# Altium integrated library TI Interface Line Driver.IntLib: 130 symbols (part 3 of 3)
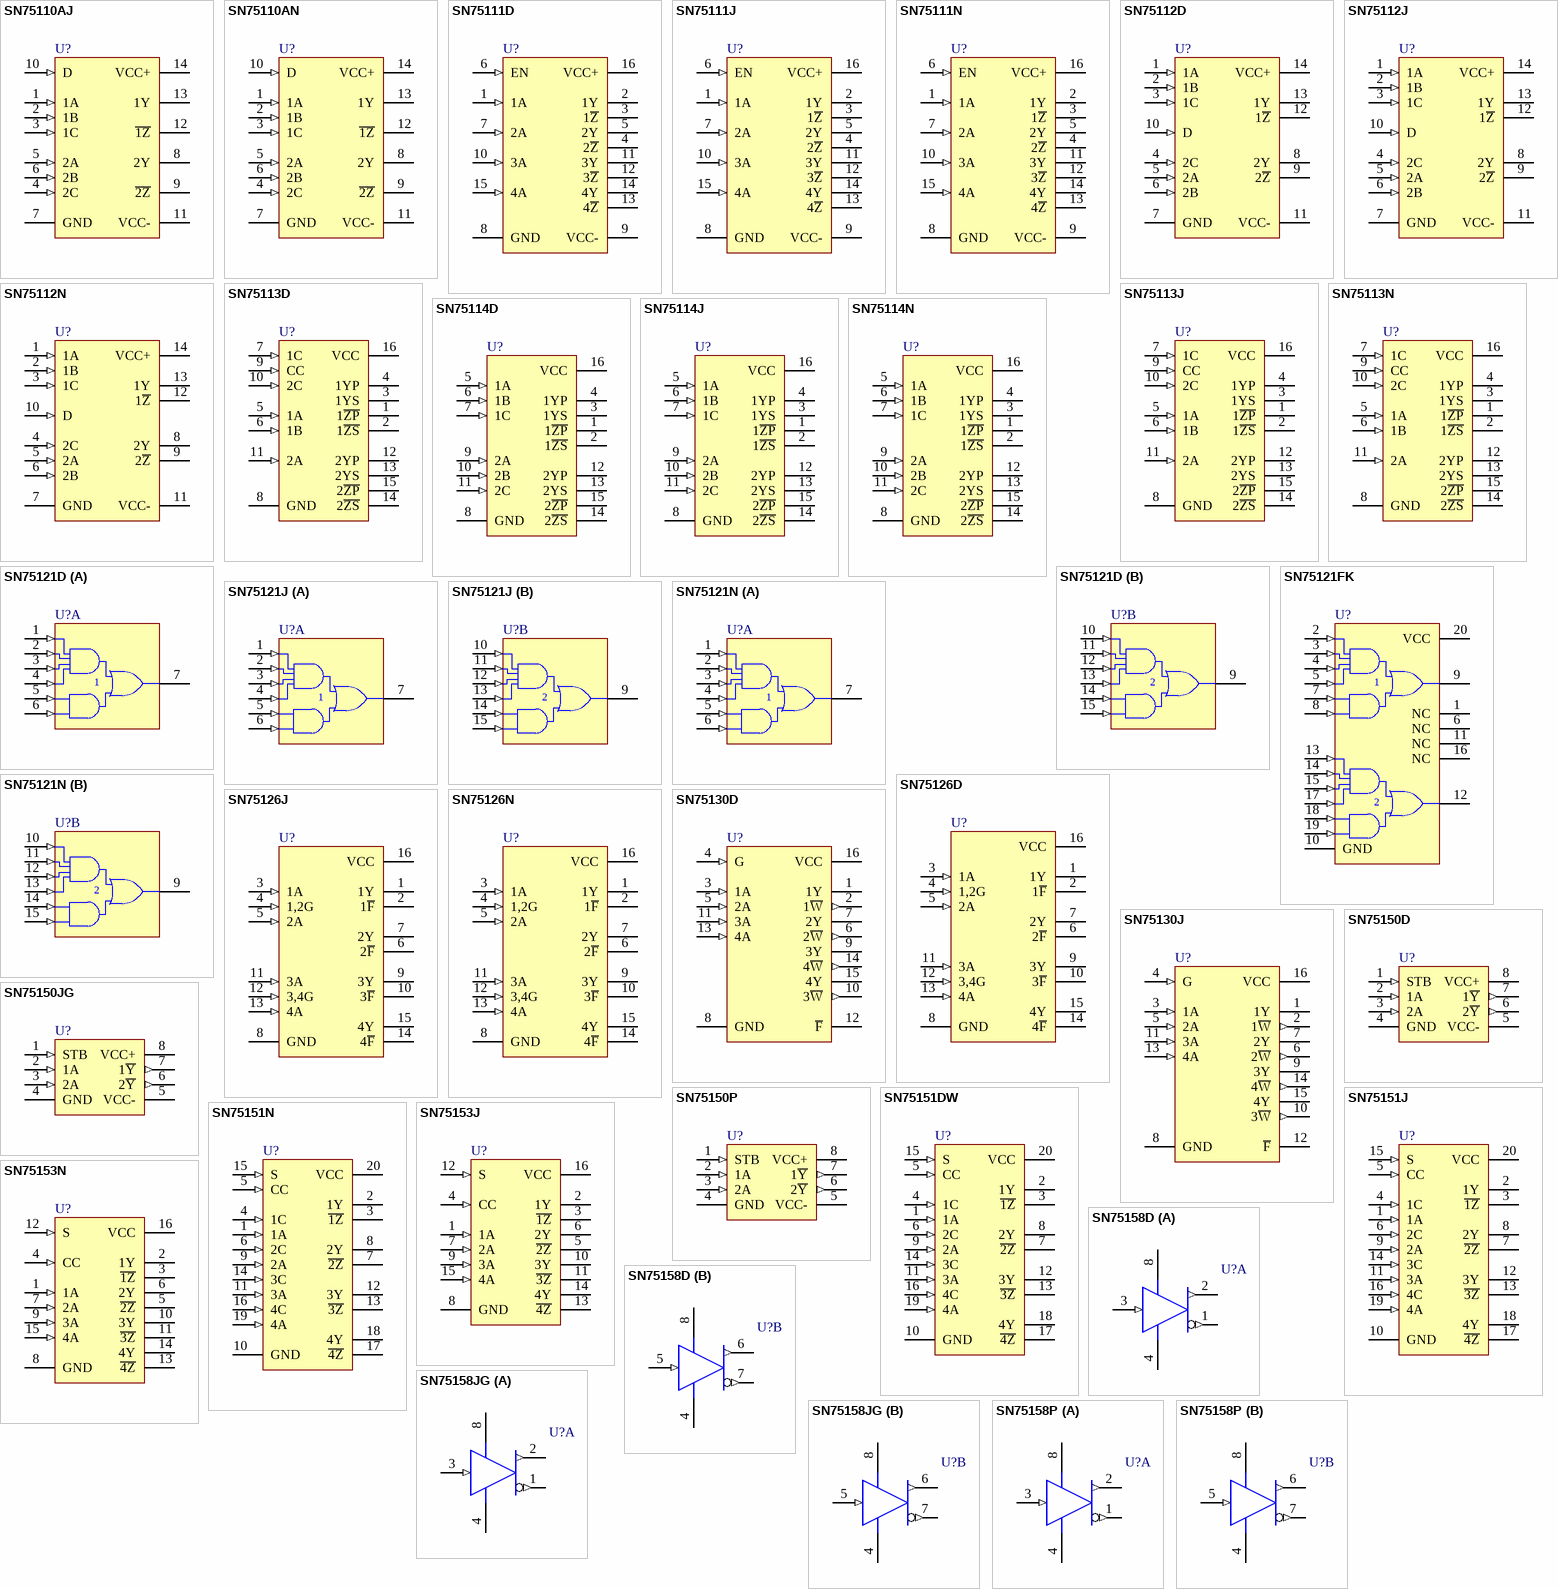
[diagram p6: symbols SN75110AJ to SN75158P]

## SN75130D
designator U?
Quadruple Line Driver; ComponentAvailability: Obsolete; Published: 15-May-2002; LatestRevisionDate: 13-Apr-2006; LatestRevisionNote: IPC-7351 Footprint Added.; DatasheetVersion: Feb-1990; PackageVersion: Jan-1998; PackageReference: D016; Publisher: Altium Limited; PackageDescription: 16-Pin Small Outline Integrated Circuit 1.27 mm Pitch; Code_IPC: SOIC127P600-16; ComponentLink1Description: Manufacturer Link; ComponentLink1URL: http://www.ti.com/; ComponentLink2Description: Datasheet; ComponentLink2URL: http://www-s.ti.com/sc/ds/sn75130.pdf
footprint D016_N (SOIC, 16-Leads, Body 9.9x3.9mm, Pitch 1.27mm, IPC Medium Density)
footprint D016_L (SOIC, 16-Leads, Body 9.9x3.9mm, Pitch 1.27mm, IPC High Density)
footprint D016_M (SOIC, 16-Leads, Body 9.9x3.9mm, Pitch 1.27mm, IPC Low Density)
3D model D016 (16-Pin Small Outline Integrated Circuit 1.27 mm Pitch)
pins: 1 1Y (oe), 2 1~{W} (out), 3 1A (in), 4 G (in), 5 2A (in), 6 2~{W} (out), 7 2Y (oe), 8 GND (power), 9 3Y (oe), 10 3~{W} (out), 11 3A (in), 12 ~{F} (oc), 13 4A (in), 14 4~{W} (out), 15 4Y (oe), 16 VCC (power)

## SN75130J
designator U?
Quadruple Line Driver; Published: 15-May-2002; LatestRevisionDate: 29-May-2009; LatestRevisionNote: Component Body Added.; DatasheetVersion: Feb-1990; PackageVersion: Jun-1999; PackageReference: J016; Publisher: Altium Limited; PackageDescription: DIP, Ceramic, 16-Pin, Row Spacing 7.62 mm, Pitch 2.54 mm; ComponentLink1Description: Manufacturer Link; ComponentLink1URL: http://www.ti.com/
footprint J016 (DIP, 16-Leads, Row Spacing 7.62mm, Pitch 2.54mm, Body 19.56x6.92mm)
3D model J016 (DIP, Ceramic, 16-Pin, Row Spacing 7.62 mm, Pitch 2.54 mm)
pins: 1 1Y (oe), 2 1~{W} (out), 3 1A (in), 4 G (in), 5 2A (in), 6 2~{W} (out), 7 2Y (oe), 8 GND (power), 9 3Y (oe), 10 3~{W} (out), 11 3A (in), 12 ~{F} (oc), 13 4A (in), 14 4~{W} (out), 15 4Y (oe), 16 VCC (power)

## SN75150D
designator U?
Dual Line Driver; Published: 15-May-2002; LatestRevisionDate: 13-Apr-2006; LatestRevisionNote: IPC-7351 Footprint Added.; DatasheetVersion: May-1990; PackageVersion: Nov-2006; PackageReference: D008; Publisher: Altium Limited; PackageDescription: 8-Pin Small Outline Integrated Circuit 1.27 mm Pitch; Code_JEDEC: MS-012-AA; Code_IPC: SOIC127P600-8; ComponentLink1Description: Manufacturer Link; ComponentLink1URL: http://www.ti.com/; ComponentLink2Description: Datasheet; ComponentLink2URL: http://www-s.ti.com/sc/ds/sn75150.pdf
footprint D008_N (SOIC, 8-Leads, Body 4.9x3.9mm, Pitch 1.27mm, IPC Medium Density)
footprint D008_L (SOIC, 8-Leads, Body 4.9x3.9mm, Pitch 1.27mm, IPC High Density)
footprint D008_M (SOIC, 8-Leads, Body 4.9x3.9mm, Pitch 1.27mm, IPC Low Density)
3D model D008 (8-Pin Small Outline Integrated Circuit 1.27 mm Pitch)
pins: 1 STB (in), 2 1A (in), 3 2A (in), 4 GND (power), 5 VCC- (power), 6 2~{Y} (out), 7 1~{Y} (out), 8 VCC+ (power)

## SN75150JG
designator U?
Dual Line Driver; ComponentAvailability: Obsolete; Published: 15-May-2002; LatestRevisionDate: 29-May-2009; LatestRevisionNote: Component Body Added.; DatasheetVersion: May-1990; PackageVersion: Jan-1995; PackageReference: JG008; Publisher: Altium Limited; PackageDescription: DIP, Ceramic, 8-Pin, Row Spacing 7.62 mm, Pitch 2.54 mm; ComponentLink1Description: Manufacturer Link; ComponentLink1URL: http://www.ti.com/; ComponentLink2Description: Datasheet; ComponentLink2URL: http://www-s.ti.com/sc/ds/sn75150.pdf
footprint JG008 (DIP, 8-Leads, Row Spacing 7.62mm, Pitch 2.54mm, Body 9.58x6.67mm)
3D model JG008 (DIP, Ceramic, 8-Pin, Row Spacing 7.62 mm, Pitch 2.54 mm)
pins: 1 STB (in), 2 1A (in), 3 2A (in), 4 GND (power), 5 VCC- (power), 6 2~{Y} (out), 7 1~{Y} (out), 8 VCC+ (power)

## SN75150P
designator U?
Dual Line Driver; Published: 15-May-2002; LatestRevisionDate: 29-May-2009; LatestRevisionNote: Component Body Added.; DatasheetVersion: May-1990; PackageVersion: Jun-1999; PackageReference: P008; Publisher: Altium Limited; PackageDescription: DIP, 8-Pin, Row Spacing 7.62 mm, Pitch 2.54 mm; Code_JEDEC: MO-001-AN; ComponentLink1Description: Manufacturer Link; ComponentLink1URL: http://www.ti.com/; ComponentLink2Description: Datasheet; ComponentLink2URL: http://www-s.ti.com/sc/ds/sn75150.pdf
footprint P008 (DIP, 8-Leads, Row Spacing 7.62mm, Pitch 2.54mm, Body 9.81x6.35mm)
3D model P008 (DIP, 8-Pin, Row Spacing 7.62 mm, Pitch 2.54 mm)
pins: 1 STB (in), 2 1A (in), 3 2A (in), 4 GND (power), 5 VCC- (power), 6 2~{Y} (out), 7 1~{Y} (out), 8 VCC+ (power)

## SN75151DW
designator U?
Quad Differential Line Driver with 3-State Output; Published: 15-May-2002; LatestRevisionDate: 13-Apr-2006; LatestRevisionNote: IPC-7351 Footprint Added.; DatasheetVersion: Oct-1986; PackageVersion: Mar-2000; PackageReference: DW020; Publisher: Altium Limited; PackageDescription: 20-Pin Plastic Small Outline Integrated Circuit 1.27 mm Pitch; Code_JEDEC: MS-013; Code_IPC: SOIC127P1030-20; ComponentLink1Description: Manufacturer Link; ComponentLink1URL: http://www.ti.com/; ComponentLink2Description: Datasheet; ComponentLink2URL: http://www-s.ti.com/sc/ds/sn75151.pdf
footprint DW020_N (SOIC, 20-Leads, Body 12.8x7.5mm, Pitch 1.27mm, IPC Medium Density)
footprint DW020_L (SOIC, 20-Leads, Body 12.8x7.5mm, Pitch 1.27mm, IPC High Density)
footprint DW020_M (SOIC, 20-Leads, Body 12.8x7.5mm, Pitch 1.27mm, IPC Low Density)
3D model DW020 (20-Pin Plastic Small Outline Integrated Circuit 1.27 mm Pitch)
pins: 1 1A (in), 2 1Y (hiz), 3 ~{1Z} (hiz), 4 1C (in), 5 CC (in), 6 2C (in), 7 ~{2Z} (hiz), 8 2Y (hiz), 9 2A (in), 10 GND (power), 11 3A (in), 12 3Y (hiz), 13 ~{3Z} (hiz), 14 3C (in), 15 S (in), 16 4C (in), 17 ~{4Z} (hiz), 18 4Y (hiz), 19 4A (in), 20 VCC (power)

## SN75151J
designator U?
Quad Differential Line Driver with 3-State Output; Published: 15-May-2002; LatestRevisionDate: 29-May-2009; LatestRevisionNote: Component Body Added.; DatasheetVersion: Oct-1986; PackageVersion: Jun-1999; PackageReference: J020; Publisher: Altium Limited; PackageDescription: DIP, Ceramic, 20-Pin, Row Spacing 7.62 mm, Pitch 2.54 mm; ComponentLink1Description: Manufacturer Link; ComponentLink1URL: http://www.ti.com/
footprint J020 (DIP, 20-Leads, Row Spacing 7.62mm, Pitch 2.54mm, Body 24.2x6.92mm)
3D model J020 (DIP, Ceramic, 20-Pin, Row Spacing 7.62 mm, Pitch 2.54 mm)
pins: 1 1A (in), 2 1Y (hiz), 3 ~{1Z} (hiz), 4 1C (in), 5 CC (in), 6 2C (in), 7 ~{2Z} (hiz), 8 2Y (hiz), 9 2A (in), 10 GND (power), 11 3A (in), 12 3Y (hiz), 13 ~{3Z} (hiz), 14 3C (in), 15 S (in), 16 4C (in), 17 ~{4Z} (hiz), 18 4Y (hiz), 19 4A (in), 20 VCC (power)

## SN75151N
designator U?
Quad Differential Line Driver with 3-State Output; ComponentAvailability: Obsolete; Published: 15-May-2002; LatestRevisionDate: 29-May-2009; LatestRevisionNote: Component Body Added.; DatasheetVersion: Oct-1986; PackageVersion: Oct-1995; PackageReference: N020; Publisher: Altium Limited; PackageDescription: DIP, 20-Pin, Row Spacing 7.62 mm, Pitch 2.54 mm; ComponentLink1Description: Manufacturer Link; ComponentLink1URL: http://www.ti.com/; ComponentLink2Description: Datasheet; ComponentLink2URL: http://www-s.ti.com/sc/ds/sn75151.pdf
footprint N020 (DIP, 20-Leads, Row Spacing 7.62mm, Pitch 2.54mm, Body 24.33x6.35mm)
3D model J020 (DIP, 20-Pin, Row Spacing 7.62 mm, Pitch 2.54 mm)
pins: 1 1A (in), 2 1Y (hiz), 3 ~{1Z} (hiz), 4 1C (in), 5 CC (in), 6 2C (in), 7 ~{2Z} (hiz), 8 2Y (hiz), 9 2A (in), 10 GND (power), 11 3A (in), 12 3Y (hiz), 13 ~{3Z} (hiz), 14 3C (in), 15 S (in), 16 4C (in), 17 ~{4Z} (hiz), 18 4Y (hiz), 19 4A (in), 20 VCC (power)

## SN75153J
designator U?
Quad Differential Line Driver with 3-State Output; Published: 15-May-2002; LatestRevisionDate: 29-May-2009; LatestRevisionNote: Component Body Added.; DatasheetVersion: Oct-1986; PackageVersion: Jun-1999; PackageReference: J016; Publisher: Altium Limited; PackageDescription: DIP, Ceramic, 16-Pin, Row Spacing 7.62 mm, Pitch 2.54 mm; ComponentLink1Description: Manufacturer Link; ComponentLink1URL: http://www.ti.com/
footprint J016 (DIP, 16-Leads, Row Spacing 7.62mm, Pitch 2.54mm, Body 19.56x6.92mm)
3D model J016 (DIP, Ceramic, 16-Pin, Row Spacing 7.62 mm, Pitch 2.54 mm)
pins: 1 1A (in), 2 1Y (hiz), 3 ~{1Z} (hiz), 4 CC (in), 5 ~{2Z} (hiz), 6 2Y (hiz), 7 2A (in), 8 GND (power), 9 3A (in), 10 3Y (hiz), 11 ~{3Z} (hiz), 12 S (in), 13 ~{4Z} (hiz), 14 4Y (hiz), 15 4A (in), 16 VCC (power)

## SN75153N
designator U?
Quad Differential Line Driver with 3-State Output; Published: 15-May-2002; LatestRevisionDate: 29-May-2009; LatestRevisionNote: Component Body Added.; DatasheetVersion: Oct-1986; PackageVersion: Oct-1995; PackageReference: N016; Publisher: Altium Limited; PackageDescription: DIP, 16-Pin, Row Spacing 7.62 mm, Pitch 2.54 mm; Code_JEDEC: MS-001-BB; ComponentLink1Description: Manufacturer Link; ComponentLink1URL: http://www.ti.com/
footprint N016 (DIP, 16-Leads, Row Spacing 7.62mm, Pitch 2.54mm, Body 19.31x6.35mm)
3D model N016 (DIP, 16-Pin, Row Spacing 7.62 mm, Pitch 2.54 mm)
pins: 1 1A (in), 2 1Y (hiz), 3 ~{1Z} (hiz), 4 CC (in), 5 ~{2Z} (hiz), 6 2Y (hiz), 7 2A (in), 8 GND (power), 9 3A (in), 10 3Y (hiz), 11 ~{3Z} (hiz), 12 S (in), 13 ~{4Z} (hiz), 14 4Y (hiz), 15 4A (in), 16 VCC (power)

## SN75158D
designator U?
Dual Differential Line Receiver; Published: 15-May-2002; LatestRevisionDate: 13-Apr-2006; LatestRevisionNote: IPC-7351 Footprint Added.; DatasheetVersion: Sep-1986; PackageVersion: Nov-2006; PackageReference: D008; Publisher: Altium Limited; PackageDescription: 8-Pin Small Outline Integrated Circuit 1.27 mm Pitch; Code_JEDEC: MS-012-AA; Code_IPC: SOIC127P600-8; ComponentLink1Description: Manufacturer Link; ComponentLink1URL: http://www.ti.com/; ComponentLink2Description: Datasheet; ComponentLink2URL: http://www-s.ti.com/sc/ds/sn75158.pdf
footprint D008_N (SOIC, 8-Leads, Body 4.9x3.9mm, Pitch 1.27mm, IPC Medium Density)
footprint D008_L (SOIC, 8-Leads, Body 4.9x3.9mm, Pitch 1.27mm, IPC High Density)
footprint D008_M (SOIC, 8-Leads, Body 4.9x3.9mm, Pitch 1.27mm, IPC Low Density)
3D model D008 (8-Pin Small Outline Integrated Circuit 1.27 mm Pitch)
pins on every part: 4 GND (power), 8 VCC (power)
part A pins: 1 1Z (out), 2 1Y (out), 3 1A (in)
part B pins: 5 2A (in), 6 2Y (out), 7 2Z (out)

## SN75158JG
designator U?
Dual Differential Line Receiver; Published: 15-May-2002; LatestRevisionDate: 29-May-2009; LatestRevisionNote: Component Body Added.; DatasheetVersion: Sep-1986; PackageVersion: Jan-1995; PackageReference: JG008; Publisher: Altium Limited; PackageDescription: DIP, Ceramic, 8-Pin, Row Spacing 7.62 mm, Pitch 2.54 mm; ComponentLink1Description: Manufacturer Link; ComponentLink1URL: http://www.ti.com/
footprint JG008 (DIP, 8-Leads, Row Spacing 7.62mm, Pitch 2.54mm, Body 9.58x6.67mm)
3D model JG008 (DIP, Ceramic, 8-Pin, Row Spacing 7.62 mm, Pitch 2.54 mm)
pins on every part: 4 GND (power), 8 VCC (power)
part A pins: 1 1Z (out), 2 1Y (out), 3 1A (in)
part B pins: 5 2A (in), 6 2Y (out), 7 2Z (out)

## SN75158P
designator U?
Dual Differential Line Receiver; Published: 15-May-2002; LatestRevisionDate: 29-May-2009; LatestRevisionNote: Component Body Added.; DatasheetVersion: Sep-1986; PackageVersion: Jun-1999; PackageReference: P008; Publisher: Altium Limited; PackageDescription: DIP, 8-Pin, Row Spacing 7.62 mm, Pitch 2.54 mm; Code_JEDEC: MO-001-AN; ComponentLink1Description: Manufacturer Link; ComponentLink1URL: http://www.ti.com/; ComponentLink2Description: Datasheet; ComponentLink2URL: http://www-s.ti.com/sc/ds/sn75158.pdf
footprint P008 (DIP, 8-Leads, Row Spacing 7.62mm, Pitch 2.54mm, Body 9.81x6.35mm)
3D model P008 (DIP, 8-Pin, Row Spacing 7.62 mm, Pitch 2.54 mm)
pins on every part: 4 GND (power), 8 VCC (power)
part A pins: 1 1Z (out), 2 1Y (out), 3 1A (in)
part B pins: 5 2A (in), 6 2Y (out), 7 2Z (out)

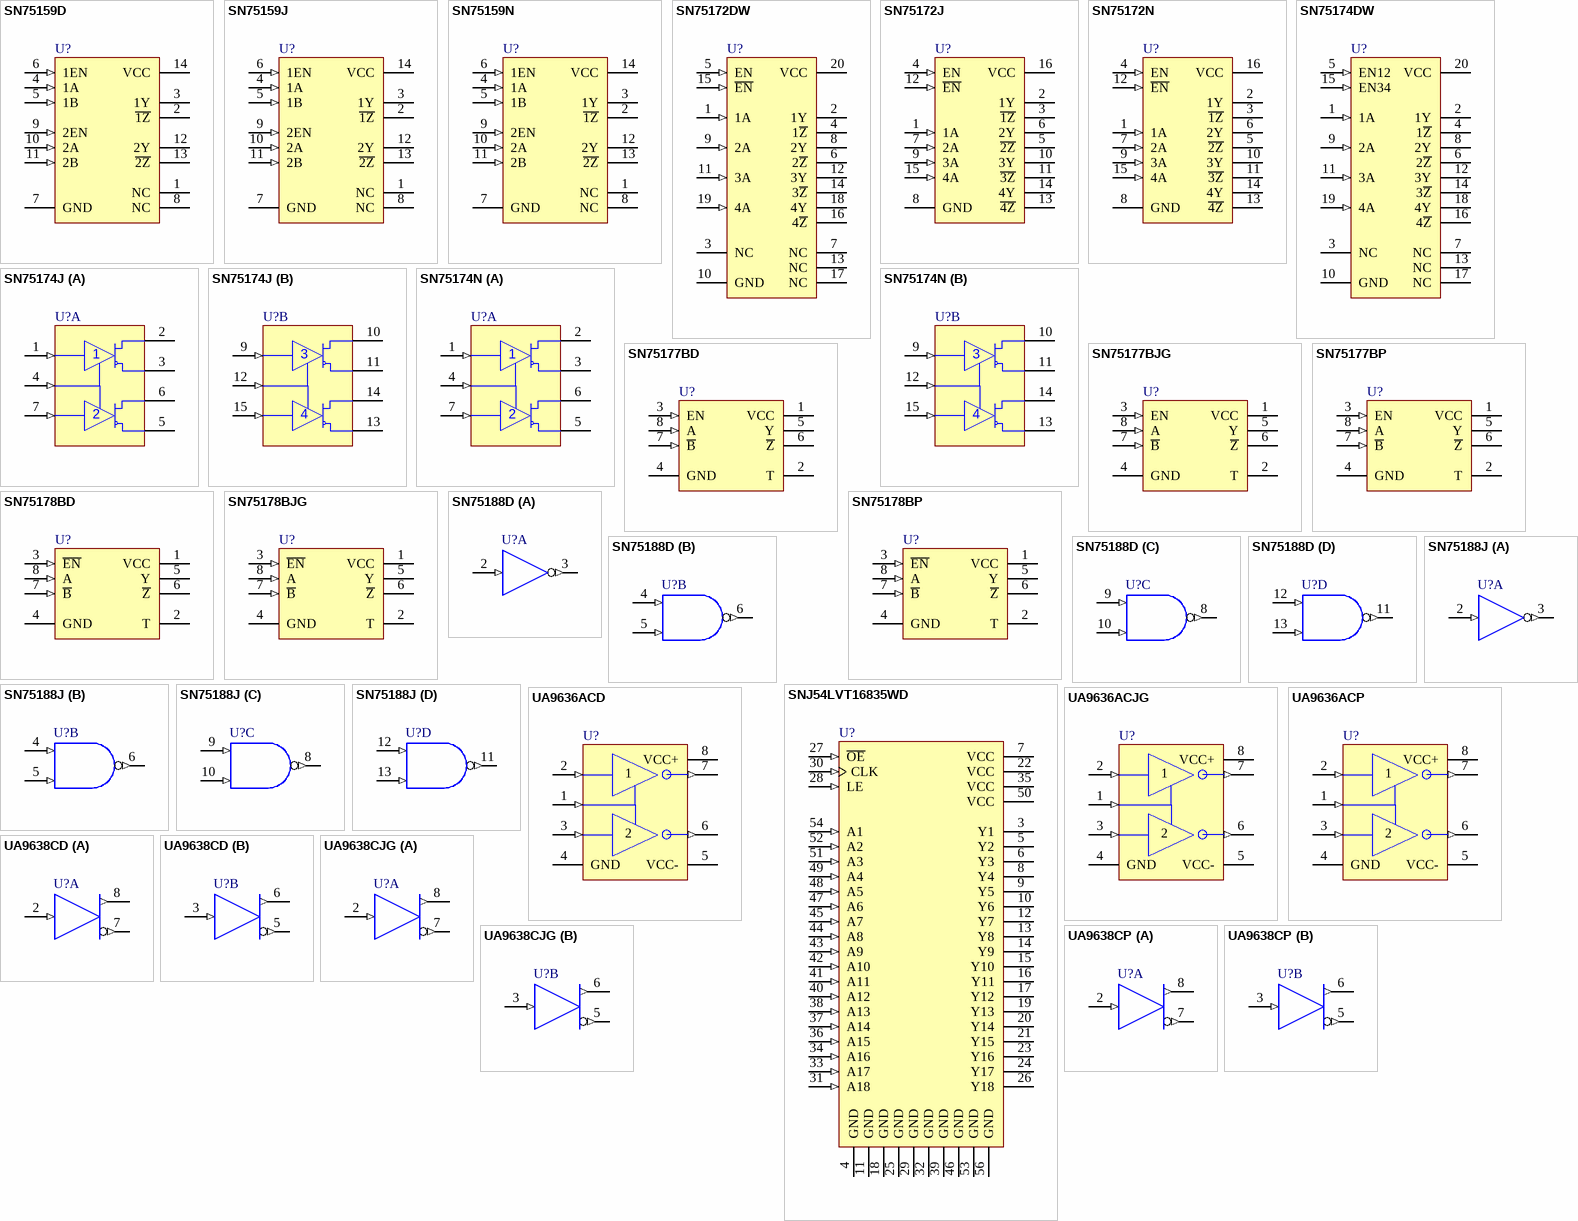
[diagram p4: symbols SN75159D to UA9638CP]

## SN75159D
designator U?
Dual Differential Line Driver with 3-State Output; Published: 15-May-2002; LatestRevisionDate: 13-Apr-2006; LatestRevisionNote: IPC-7351 Footprint Added.; DatasheetVersion: Sep-1986; PackageVersion: Nov-2006; PackageReference: D014; Publisher: Altium Limited; PackageDescription: 14-Pin Small Outline Integrated Circuit 1.27 mm Pitch; Code_JEDEC: MS-012-AB; Code_IPC: SOIC127P600-14; ComponentLink1Description: Manufacturer Link; ComponentLink1URL: http://www.ti.com/; ComponentLink2Description: Datasheet; ComponentLink2URL: http://www-s.ti.com/sc/ds/sn75159.pdf
footprint D014_N (SOIC, 14-Leads, Body 8.7x3.9mm, Pitch 1.27mm, IPC Medium Density)
footprint D014_L (SOIC, 14-Leads, Body 8.7x3.9mm, Pitch 1.27mm, IPC High Density)
footprint D014_M (SOIC, 14-Leads, Body 8.7x3.9mm, Pitch 1.27mm, IPC Low Density)
3D model D014 (14-Pin Small Outline Integrated Circuit 1.27 mm Pitch)
pins: 1 NC, 2 ~{1Z} (hiz), 3 1Y (hiz), 4 1A (in), 5 1B (in), 6 1EN (in), 7 GND (power), 8 NC, 9 2EN (in), 10 2A (in), 11 2B (in), 12 2Y (hiz), 13 ~{2Z} (hiz), 14 VCC (power)

## SN75159J
designator U?
Dual Differential Line Driver with 3-State Output; Published: 15-May-2002; LatestRevisionDate: 29-May-2009; LatestRevisionNote: Component Body Added.; DatasheetVersion: Sep-1986; PackageVersion: Jun-1999; PackageReference: J014; Publisher: Altium Limited; PackageDescription: DIP, Ceramic, 14-Pin, Row Spacing 7.62 mm, Pitch 2.54 mm; ComponentLink1Description: Manufacturer Link; ComponentLink1URL: http://www.ti.com/
footprint J014 (DIP, 14-Leads, Row Spacing 7.62mm, Pitch 2.54mm, Body 19.56x6.92mm)
3D model J014 (DIP, Ceramic, 14-Pin, Row Spacing 7.62 mm, Pitch 2.54 mm)
pins: 1 NC, 2 ~{1Z} (hiz), 3 1Y (hiz), 4 1A (in), 5 1B (in), 6 1EN (in), 7 GND (power), 8 NC, 9 2EN (in), 10 2A (in), 11 2B (in), 12 2Y (hiz), 13 ~{2Z} (hiz), 14 VCC (power)

## SN75159N
designator U?
Dual Differential Line Driver with 3-State Output; Published: 15-May-2002; LatestRevisionDate: 29-May-2009; LatestRevisionNote: Component Body Added.; DatasheetVersion: Sep-1986; PackageVersion: Oct-1995; PackageReference: N014; Publisher: Altium Limited; PackageDescription: DIP, 14-Pin, Row Spacing 7.62 mm, Pitch 2.54 mm; ComponentLink1Description: Manufacturer Link; ComponentLink1URL: http://www.ti.com/; ComponentLink2Description: Datasheet; ComponentLink2URL: http://www-s.ti.com/sc/ds/sn75159.pdf
footprint N014 (DIP, 14-Leads, Row Spacing 7.62mm, Pitch 2.54mm, Body 19.31x6.35mm)
3D model N014 (DIP, 14-Pin, Row Spacing 7.62 mm, Pitch 2.54 mm)
pins: 1 NC, 2 ~{1Z} (hiz), 3 1Y (hiz), 4 1A (in), 5 1B (in), 6 1EN (in), 7 GND (power), 8 NC, 9 2EN (in), 10 2A (in), 11 2B (in), 12 2Y (hiz), 13 ~{2Z} (hiz), 14 VCC (power)

## SN75172DW
designator U?
Quadruple Differential Line Driver; Published: 15-May-2002; LatestRevisionDate: 13-Apr-2006; LatestRevisionNote: IPC-7351 Footprint Added.; DatasheetVersion: Apr-1988; PackageVersion: Mar-2000; PackageReference: DW020; Publisher: Altium Limited; PackageDescription: 20-Pin Plastic Small Outline Integrated Circuit 1.27 mm Pitch; Code_JEDEC: MS-013; Code_IPC: SOIC127P1030-20; ComponentLink1Description: Manufacturer Link; ComponentLink1URL: http://www.ti.com/; ComponentLink2Description: Datasheet; ComponentLink2URL: http://www-s.ti.com/sc/ds/sn75172.pdf
footprint DW020_N (SOIC, 20-Leads, Body 12.8x7.5mm, Pitch 1.27mm, IPC Medium Density)
footprint DW020_L (SOIC, 20-Leads, Body 12.8x7.5mm, Pitch 1.27mm, IPC High Density)
footprint DW020_M (SOIC, 20-Leads, Body 12.8x7.5mm, Pitch 1.27mm, IPC Low Density)
3D model DW020 (20-Pin Plastic Small Outline Integrated Circuit 1.27 mm Pitch)
pins: 1 1A (in), 2 1Y (hiz), 3 NC, 4 1~{Z} (hiz), 5 EN (in), 6 2~{Z} (hiz), 7 NC, 8 2Y (hiz), 9 2A (in), 10 GND (power), 11 3A (in), 12 3Y (hiz), 13 NC, 14 3~{Z} (hiz), 15 ~{EN} (in), 16 4~{Z} (hiz), 17 NC, 18 4Y (hiz), 19 4A (in), 20 VCC (power)

## SN75172J
designator U?
Quadruple Differential Line Driver; Published: 15-May-2002; LatestRevisionDate: 29-May-2009; LatestRevisionNote: Component Body Added.; DatasheetVersion: Apr-1988; PackageVersion: Jun-1999; PackageReference: J016; Publisher: Altium Limited; PackageDescription: DIP, Ceramic, 16-Pin, Row Spacing 7.62 mm, Pitch 2.54 mm; ComponentLink1Description: Manufacturer Link; ComponentLink1URL: http://www.ti.com/
footprint J016 (DIP, 16-Leads, Row Spacing 7.62mm, Pitch 2.54mm, Body 19.56x6.92mm)
3D model J016 (DIP, Ceramic, 16-Pin, Row Spacing 7.62 mm, Pitch 2.54 mm)
pins: 1 1A (in), 2 1Y (hiz), 3 ~{1Z} (hiz), 4 EN (in), 5 ~{2Z} (hiz), 6 2Y (hiz), 7 2A (in), 8 GND (power), 9 3A (in), 10 3Y (hiz), 11 ~{3Z} (hiz), 12 ~{EN} (in), 13 ~{4Z} (hiz), 14 4Y (hiz), 15 4A (in), 16 VCC (power)

## SN75172N
designator U?
Quadruple Differential Line Driver; Published: 15-May-2002; LatestRevisionDate: 29-May-2009; LatestRevisionNote: Component Body Added.; DatasheetVersion: Apr-1988; PackageVersion: Oct-1995; PackageReference: N016; Publisher: Altium Limited; PackageDescription: DIP, 16-Pin, Row Spacing 7.62 mm, Pitch 2.54 mm; Code_JEDEC: MS-001-BB; ComponentLink1Description: Manufacturer Link; ComponentLink1URL: http://www.ti.com/; ComponentLink2Description: Datasheet; ComponentLink2URL: http://www-s.ti.com/sc/ds/sn75172.pdf
footprint N016 (DIP, 16-Leads, Row Spacing 7.62mm, Pitch 2.54mm, Body 19.31x6.35mm)
3D model N016 (DIP, 16-Pin, Row Spacing 7.62 mm, Pitch 2.54 mm)
pins: 1 1A (in), 2 1Y (hiz), 3 ~{1Z} (hiz), 4 EN (in), 5 ~{2Z} (hiz), 6 2Y (hiz), 7 2A (in), 8 GND (power), 9 3A (in), 10 3Y (hiz), 11 ~{3Z} (hiz), 12 ~{EN} (in), 13 ~{4Z} (hiz), 14 4Y (hiz), 15 4A (in), 16 VCC (power)

## SN75174DW
designator U?
Quadruple Differential Line Driver; Published: 15-May-2002; LatestRevisionDate: 13-Apr-2006; LatestRevisionNote: IPC-7351 Footprint Added.; DatasheetVersion: May-1988; PackageVersion: Mar-2000; PackageReference: DW020; Publisher: Altium Limited; PackageDescription: 20-Pin Plastic Small Outline Integrated Circuit 1.27 mm Pitch; Code_JEDEC: MS-013; Code_IPC: SOIC127P1030-20; ComponentLink1Description: Manufacturer Link; ComponentLink1URL: http://www.ti.com/; ComponentLink2Description: Datasheet; ComponentLink2URL: http://www-s.ti.com/sc/ds/sn75174.pdf
footprint DW020_N (SOIC, 20-Leads, Body 12.8x7.5mm, Pitch 1.27mm, IPC Medium Density)
footprint DW020_L (SOIC, 20-Leads, Body 12.8x7.5mm, Pitch 1.27mm, IPC High Density)
footprint DW020_M (SOIC, 20-Leads, Body 12.8x7.5mm, Pitch 1.27mm, IPC Low Density)
3D model DW020 (20-Pin Plastic Small Outline Integrated Circuit 1.27 mm Pitch)
pins: 1 1A (in), 2 1Y (hiz), 3 NC, 4 1~{Z} (hiz), 5 EN12 (in), 6 2~{Z} (hiz), 7 NC, 8 2Y (hiz), 9 2A (in), 10 GND (power), 11 3A (in), 12 3Y (hiz), 13 NC, 14 3~{Z} (hiz), 15 EN34 (in), 16 4~{Z} (hiz), 17 NC, 18 4Y (hiz), 19 4A (in), 20 VCC (power)

## SN75174J
designator U?
Quadruple Differential Line Driver; ComponentAvailability: Obsolete; Published: 15-May-2002; LatestRevisionDate: 29-May-2009; LatestRevisionNote: Component Body Added.; DatasheetVersion: May-1988; PackageVersion: Jun-1999; PackageReference: J016; Publisher: Altium Limited; PackageDescription: DIP, Ceramic, 16-Pin, Row Spacing 7.62 mm, Pitch 2.54 mm; ComponentLink1Description: Manufacturer Link; ComponentLink1URL: http://www.ti.com/; ComponentLink2Description: Datasheet; ComponentLink2URL: http://www-s.ti.com/sc/ds/sn75174.pdf
footprint J016 (DIP, 16-Leads, Row Spacing 7.62mm, Pitch 2.54mm, Body 19.56x6.92mm)
3D model J016 (DIP, Ceramic, 16-Pin, Row Spacing 7.62 mm, Pitch 2.54 mm)
pins on every part: 8 GND (power) hidden to GND, 16 VCC (power) hidden to VCC
part A pins: 1 1A (in), 2 1Y (hiz), 3 1~{Z} (hiz), 4 EN (in), 5 2~{Z} (hiz), 6 2Y (hiz), 7 2A (in)
part B pins: 9 3A (in), 10 3Y (hiz), 11 3~{Z} (hiz), 12 EN (in), 13 4~{Z} (hiz), 14 4Y (hiz), 15 4A (in)

## SN75174N
designator U?
Quadruple Differential Line Driver; Published: 15-May-2002; LatestRevisionDate: 29-May-2009; LatestRevisionNote: Component Body Added.; DatasheetVersion: May-1988; PackageVersion: Oct-1995; PackageReference: N016; Publisher: Altium Limited; PackageDescription: DIP, 16-Pin, Row Spacing 7.62 mm, Pitch 2.54 mm; Code_JEDEC: MS-001-BB; ComponentLink1Description: Manufacturer Link; ComponentLink1URL: http://www.ti.com/; ComponentLink2Description: Datasheet; ComponentLink2URL: http://www-s.ti.com/sc/ds/sn75174.pdf
footprint N016 (DIP, 16-Leads, Row Spacing 7.62mm, Pitch 2.54mm, Body 19.31x6.35mm)
3D model N016 (DIP, 16-Pin, Row Spacing 7.62 mm, Pitch 2.54 mm)
pins on every part: 8 GND (power) hidden to GND, 16 VCC (power) hidden to VCC
part A pins: 1 1A (in), 2 1Y (hiz), 3 1~{Z} (hiz), 4 EN (in), 5 2~{Z} (hiz), 6 2Y (hiz), 7 2A (in)
part B pins: 9 3A (in), 10 3Y (hiz), 11 3~{Z} (hiz), 12 EN (in), 13 4~{Z} (hiz), 14 4Y (hiz), 15 4A (in)

## SN75177BD
designator U?
Differential Bus Repeater; Note: Inputs have hysteresis for increased noise immunity.; ComponentAvailability: Obsolete; Published: 15-May-2002; LatestRevisionDate: 13-Apr-2006; LatestRevisionNote: IPC-7351 Footprint Added.; DatasheetVersion: Jan-1990; PackageVersion: Nov-2006; PackageReference: D008; Publisher: Altium Limited; PackageDescription: 8-Pin Small Outline Integrated Circuit 1.27 mm Pitch; Code_JEDEC: MS-012-AA; Code_IPC: SOIC127P600-8; ComponentLink1Description: Manufacturer Link; ComponentLink1URL: http://www.ti.com/; ComponentLink2Description: Datasheet; ComponentLink2URL: http://www-s.ti.com/sc/ds/sn75178b.pdf
footprint D008_N (SOIC, 8-Leads, Body 4.9x3.9mm, Pitch 1.27mm, IPC Medium Density)
footprint D008_L (SOIC, 8-Leads, Body 4.9x3.9mm, Pitch 1.27mm, IPC High Density)
footprint D008_M (SOIC, 8-Leads, Body 4.9x3.9mm, Pitch 1.27mm, IPC Low Density)
3D model D008 (8-Pin Small Outline Integrated Circuit 1.27 mm Pitch)
pins: 1 VCC (power), 2 T (hiz), 3 EN (in), 4 GND (power), 5 Y (hiz), 6 ~{Z} (hiz), 7 ~{B} (in), 8 A (in)

## SN75177BJG
designator U?
Differential Bus Repeater; Note: Inputs have hysteresis for increased noise immunity.; Published: 15-May-2002; LatestRevisionDate: 29-May-2009; LatestRevisionNote: Component Body Added.; DatasheetVersion: Jan-1990; PackageVersion: Jan-1995; PackageReference: JG008; Publisher: Altium Limited; PackageDescription: DIP, Ceramic, 8-Pin, Row Spacing 7.62 mm, Pitch 2.54 mm; ComponentLink1Description: Manufacturer Link; ComponentLink1URL: http://www.ti.com/
footprint JG008 (DIP, 8-Leads, Row Spacing 7.62mm, Pitch 2.54mm, Body 9.58x6.67mm)
3D model JG008 (DIP, Ceramic, 8-Pin, Row Spacing 7.62 mm, Pitch 2.54 mm)
pins: 1 VCC (power), 2 T (hiz), 3 EN (in), 4 GND (power), 5 Y (hiz), 6 ~{Z} (hiz), 7 ~{B} (in), 8 A (in)

## SN75177BP
designator U?
Differential Bus Repeater; Note: Inputs have hysteresis for increased noise immunity.; ComponentAvailability: Obsolete; Published: 15-May-2002; LatestRevisionDate: 29-May-2009; LatestRevisionNote: Component Body Added.; DatasheetVersion: Jan-1990; PackageVersion: Jun-1999; PackageReference: P008; Publisher: Altium Limited; PackageDescription: DIP, 8-Pin, Row Spacing 7.62 mm, Pitch 2.54 mm; Code_JEDEC: MO-001-AN; ComponentLink1Description: Manufacturer Link; ComponentLink1URL: http://www.ti.com/; ComponentLink2Description: Datasheet; ComponentLink2URL: http://www-s.ti.com/sc/ds/sn75178b.pdf
footprint P008 (DIP, 8-Leads, Row Spacing 7.62mm, Pitch 2.54mm, Body 9.81x6.35mm)
3D model P008 (DIP, 8-Pin, Row Spacing 7.62 mm, Pitch 2.54 mm)
pins: 1 VCC (power), 2 T (hiz), 3 EN (in), 4 GND (power), 5 Y (hiz), 6 ~{Z} (hiz), 7 ~{B} (in), 8 A (in)

## SN75178BD
designator U?
Differential Bus Repeater; Note: Inputs have hysteresis for increased noise immunity.; ComponentAvailability: Obsolete; Published: 15-May-2002; LatestRevisionDate: 13-Apr-2006; LatestRevisionNote: IPC-7351 Footprint Added.; DatasheetVersion: Jan-1990; PackageVersion: Nov-2006; PackageReference: D008; Publisher: Altium Limited; PackageDescription: 8-Pin Small Outline Integrated Circuit 1.27 mm Pitch; Code_JEDEC: MS-012-AA; Code_IPC: SOIC127P600-8; ComponentLink1Description: Manufacturer Link; ComponentLink1URL: http://www.ti.com/; ComponentLink2Description: Datasheet; ComponentLink2URL: http://www-s.ti.com/sc/ds/sn75178b.pdf
footprint D008_N (SOIC, 8-Leads, Body 4.9x3.9mm, Pitch 1.27mm, IPC Medium Density)
footprint D008_L (SOIC, 8-Leads, Body 4.9x3.9mm, Pitch 1.27mm, IPC High Density)
footprint D008_M (SOIC, 8-Leads, Body 4.9x3.9mm, Pitch 1.27mm, IPC Low Density)
3D model D008 (8-Pin Small Outline Integrated Circuit 1.27 mm Pitch)
pins: 1 VCC (power), 2 T (hiz), 3 ~{EN} (in), 4 GND (power), 5 Y (hiz), 6 ~{Z} (hiz), 7 ~{B} (in), 8 A (in)

## SN75178BJG
designator U?
Differential Bus Repeater; Note: Inputs have hysteresis for increased noise immunity.; Published: 15-May-2002; LatestRevisionDate: 29-May-2009; LatestRevisionNote: Component Body Added.; DatasheetVersion: Jan-1990; PackageVersion: Jan-1995; PackageReference: JG008; Publisher: Altium Limited; PackageDescription: DIP, Ceramic, 8-Pin, Row Spacing 7.62 mm, Pitch 2.54 mm; ComponentLink1Description: Manufacturer Link; ComponentLink1URL: http://www.ti.com/
footprint JG008 (DIP, 8-Leads, Row Spacing 7.62mm, Pitch 2.54mm, Body 9.58x6.67mm)
3D model JG008 (DIP, Ceramic, 8-Pin, Row Spacing 7.62 mm, Pitch 2.54 mm)
pins: 1 VCC (power), 2 T (hiz), 3 ~{EN} (in), 4 GND (power), 5 Y (hiz), 6 ~{Z} (hiz), 7 ~{B} (in), 8 A (in)

## SN75178BP
designator U?
Differential Bus Repeater; Note: Inputs have hysteresis for increased noise immunity.; Published: 15-May-2002; LatestRevisionDate: 29-May-2009; LatestRevisionNote: Component Body Added.; DatasheetVersion: Jan-1990; PackageVersion: Jun-1999; PackageReference: P008; Publisher: Altium Limited; PackageDescription: DIP, 8-Pin, Row Spacing 7.62 mm, Pitch 2.54 mm; Code_JEDEC: MO-001-AN; ComponentLink1Description: Manufacturer Link; ComponentLink1URL: http://www.ti.com/; ComponentLink2Description: Datasheet; ComponentLink2URL: http://www-s.ti.com/sc/ds/sn75178b.pdf
footprint P008 (DIP, 8-Leads, Row Spacing 7.62mm, Pitch 2.54mm, Body 9.81x6.35mm)
3D model P008 (DIP, 8-Pin, Row Spacing 7.62 mm, Pitch 2.54 mm)
pins: 1 VCC (power), 2 T (hiz), 3 ~{EN} (in), 4 GND (power), 5 Y (hiz), 6 ~{Z} (hiz), 7 ~{B} (in), 8 A (in)

## SN75188D
designator U?
Quadruple Line Driver; Published: 15-May-2002; LatestRevisionDate: 13-Apr-2006; LatestRevisionNote: IPC-7351 Footprint Added.; DatasheetVersion: Sep-1986; PackageVersion: Nov-2006; PackageReference: D014; Publisher: Altium Limited; PackageDescription: 14-Pin Small Outline Integrated Circuit 1.27 mm Pitch; Code_JEDEC: MS-012-AB; Code_IPC: SOIC127P600-14; ComponentLink1Description: Manufacturer Link; ComponentLink1URL: http://www.ti.com/; ComponentLink2Description: Datasheet; ComponentLink2URL: http://www-s.ti.com/sc/ds/sn55188.pdf
footprint D014_N (SOIC, 14-Leads, Body 8.7x3.9mm, Pitch 1.27mm, IPC Medium Density)
footprint D014_L (SOIC, 14-Leads, Body 8.7x3.9mm, Pitch 1.27mm, IPC High Density)
footprint D014_M (SOIC, 14-Leads, Body 8.7x3.9mm, Pitch 1.27mm, IPC Low Density)
3D model D014 (14-Pin Small Outline Integrated Circuit 1.27 mm Pitch)
pins on every part: 1 VCC- (power) hidden to VCC-, 7 GND (power) hidden to GND, 14 VCC+ (power) hidden to VCC+
part A pins: 2 A (in), 3 ~{Y} (out)
part B pins: 4 A (in), 5 B (in), 6 ~{Y} (out)
part C pins: 8 ~{Y} (out), 9 A (in), 10 B (in)
part D pins: 11 ~{Y} (out), 12 A (in), 13 B (in)

## SN75188J
designator U?
Quadruple Line Driver; Published: 15-May-2002; LatestRevisionDate: 29-May-2009; LatestRevisionNote: Component Body Added.; DatasheetVersion: Sep-1986; PackageVersion: Jun-1999; PackageReference: J014; Publisher: Altium Limited; PackageDescription: DIP, Ceramic, 14-Pin, Row Spacing 7.62 mm, Pitch 2.54 mm; ComponentLink1Description: Manufacturer Link; ComponentLink1URL: http://www.ti.com/
footprint J014 (DIP, 14-Leads, Row Spacing 7.62mm, Pitch 2.54mm, Body 19.56x6.92mm)
3D model J014 (DIP, Ceramic, 14-Pin, Row Spacing 7.62 mm, Pitch 2.54 mm)
pins on every part: 1 VCC- (power) hidden to VCC-, 7 GND (power) hidden to GND, 14 VCC+ (power) hidden to VCC+
part A pins: 2 A (in), 3 ~{Y} (out)
part B pins: 4 A (in), 5 B (in), 6 ~{Y} (out)
part C pins: 8 ~{Y} (out), 9 A (in), 10 B (in)
part D pins: 11 ~{Y} (out), 12 A (in), 13 B (in)

## SNJ54LVT16835WD
designator U?
3.3-V ABT 18-Bit Universal Bus Driver with 3-State Outputs; Note: Pins 1, 2 and 55 are not connected; Published: 8-Jun-2000; LatestRevisionDate: 04-Mar-2005; LatestRevisionNote: Stylized 3D Model Added.; DatasheetVersion: Jul-1994; PackageVersion: Jan-1998; PackageReference: WD056; Publisher: Altium Limited; PackageDescription: DFP; 56 Leads; Body 18.8 x 9.9 mm (LxW max); Pitch 0.635 mm; Code_JEDEC: MO-146-AB; ComponentLink1Description: Manufacturer Link; ComponentLink1URL: http://www.ti.com/
footprint WD056 (DFP; 56 Leads; Body 18.8 x 9.9 mm (LxW max); Pitch 0.635 mm)
3D model WD056 (DFP; 56 Leads; Body 18.8 x 9.9 mm (LxW max); Pitch 0.635 mm)
signal-integrity model SNJ54LVT16835WD
pins: 3 Y1 (hiz), 4 GND (power), 5 Y2 (hiz), 6 Y3 (hiz), 7 VCC (power), 8 Y4 (hiz), 9 Y5 (hiz), 10 Y6 (hiz), 11 GND (power), 12 Y7 (hiz), 13 Y8 (hiz), 14 Y9 (hiz), 15 Y10 (hiz), 16 Y11 (hiz), 17 Y12 (hiz), 18 GND (power), 19 Y13 (hiz), 20 Y14 (hiz), 21 Y15 (hiz), 22 VCC (power), 23 Y16 (hiz), 24 Y17 (hiz), 25 GND (power), 26 Y18 (hiz), 27 ~{OE} (in), 28 LE (in), 29 GND (power), 30 CLK (in), 31 A18 (in), 32 GND (power), 33 A17 (in), 34 A16 (in), 35 VCC (power), 36 A15 (in), 37 A14 (in), 38 A13 (in), 39 GND (power), 40 A12 (in), 41 A11 (in), 42 A10 (in), 43 A9 (in), 44 A8 (in), 45 A7 (in), 46 GND (power), 47 A6 (in), 48 A5 (in), 49 A4 (in), 50 VCC (power), 51 A3 (in), 52 A2 (in), 53 GND (power), 54 A1 (in), 56 GND (power)

## UA9636ACD
designator U?
Dual Line Drivers with Adjustable Slew Rate; Published: 15-May-2002; LatestRevisionDate: 13-Apr-2006; LatestRevisionNote: IPC-7351 Footprint Added.; DatasheetVersion: Sep-1986; PackageVersion: Nov-2006; PackageReference: D008; Publisher: Altium Limited; PackageDescription: 8-Pin Small Outline Integrated Circuit 1.27 mm Pitch; Code_JEDEC: MS-012-AA; Code_IPC: SOIC127P600-8; ComponentLink1Description: Manufacturer Link; ComponentLink1URL: http://www.ti.com/; ComponentLink2Description: Datasheet; ComponentLink2URL: http://www-s.ti.com/sc/ds/ua9636a.pdf
footprint D008_N (SOIC, 8-Leads, Body 4.9x3.9mm, Pitch 1.27mm, IPC Medium Density)
footprint D008_L (SOIC, 8-Leads, Body 4.9x3.9mm, Pitch 1.27mm, IPC High Density)
footprint D008_M (SOIC, 8-Leads, Body 4.9x3.9mm, Pitch 1.27mm, IPC Low Density)
3D model D008 (8-Pin Small Outline Integrated Circuit 1.27 mm Pitch)
pins: 1 CNTL (in), 2 1A (in), 3 2A (in), 4 GND (power), 5 VCC- (power), 6 2~{Y} (out), 7 1~{Y} (out), 8 VCC+ (power)

## UA9636ACJG
designator U?
Dual Line Drivers with Adjustable Slew Rate; ComponentAvailability: Obsolete; Published: 15-May-2002; LatestRevisionDate: 29-May-2009; LatestRevisionNote: Component Body Added.; DatasheetVersion: Sep-1986; PackageVersion: Jan-1995; PackageReference: JG008; Publisher: Altium Limited; PackageDescription: DIP, Ceramic, 8-Pin, Row Spacing 7.62 mm, Pitch 2.54 mm; ComponentLink1Description: Manufacturer Link; ComponentLink1URL: http://www.ti.com/; ComponentLink2Description: Datasheet; ComponentLink2URL: http://www-s.ti.com/sc/ds/ua9636a.pdf
footprint JG008 (DIP, 8-Leads, Row Spacing 7.62mm, Pitch 2.54mm, Body 9.58x6.67mm)
3D model JG008 (DIP, Ceramic, 8-Pin, Row Spacing 7.62 mm, Pitch 2.54 mm)
pins: 1 CNTL (in), 2 1A (in), 3 2A (in), 4 GND (power), 5 VCC- (power), 6 2~{Y} (out), 7 1~{Y} (out), 8 VCC+ (power)

## UA9636ACP
designator U?
Dual Line Drivers with Adjustable Slew Rate; Published: 15-May-2002; LatestRevisionDate: 29-May-2009; LatestRevisionNote: Component Body Added.; DatasheetVersion: Sep-1986; PackageVersion: Jun-1999; PackageReference: P008; Publisher: Altium Limited; PackageDescription: DIP, 8-Pin, Row Spacing 7.62 mm, Pitch 2.54 mm; Code_JEDEC: MO-001-AN; ComponentLink1Description: Manufacturer Link; ComponentLink1URL: http://www.ti.com/; ComponentLink2Description: Datasheet; ComponentLink2URL: http://www-s.ti.com/sc/ds/ua9636a.pdf
footprint P008 (DIP, 8-Leads, Row Spacing 7.62mm, Pitch 2.54mm, Body 9.81x6.35mm)
3D model P008 (DIP, 8-Pin, Row Spacing 7.62 mm, Pitch 2.54 mm)
pins: 1 CNTL (in), 2 1A (in), 3 2A (in), 4 GND (power), 5 VCC- (power), 6 2~{Y} (out), 7 1~{Y} (out), 8 VCC+ (power)

## UA9638CD
designator U?
Dual High-Speed Differential Line Driver; Published: 15-May-2002; LatestRevisionDate: 13-Apr-2006; LatestRevisionNote: IPC-7351 Footprint Added.; DatasheetVersion: Sep-1986; PackageVersion: Nov-2006; PackageReference: D008; Publisher: Altium Limited; PackageDescription: 8-Pin Small Outline Integrated Circuit 1.27 mm Pitch; Code_JEDEC: MS-012-AA; Code_IPC: SOIC127P600-8; ComponentLink1Description: Manufacturer Link; ComponentLink1URL: http://www.ti.com/; ComponentLink2Description: Datasheet; ComponentLink2URL: http://www-s.ti.com/sc/ds/ua9638.pdf
footprint D008_N (SOIC, 8-Leads, Body 4.9x3.9mm, Pitch 1.27mm, IPC Medium Density)
footprint D008_L (SOIC, 8-Leads, Body 4.9x3.9mm, Pitch 1.27mm, IPC High Density)
footprint D008_M (SOIC, 8-Leads, Body 4.9x3.9mm, Pitch 1.27mm, IPC Low Density)
3D model D008 (8-Pin Small Outline Integrated Circuit 1.27 mm Pitch)
pins on every part: 1 VCC (power) hidden to VCC, 4 GND (power) hidden to GND
part A pins: 2 1A (in), 7 1Z (out), 8 1Y (out)
part B pins: 3 2A (in), 5 2Z (out), 6 2Y (out)

## UA9638CJG
designator U?
Dual High-Speed Differential Line Driver; Published: 15-May-2002; LatestRevisionDate: 29-May-2009; LatestRevisionNote: Component Body Added.; DatasheetVersion: Sep-1986; PackageVersion: Jan-1995; PackageReference: JG008; Publisher: Altium Limited; PackageDescription: DIP, Ceramic, 8-Pin, Row Spacing 7.62 mm, Pitch 2.54 mm; ComponentLink1Description: Manufacturer Link; ComponentLink1URL: http://www.ti.com/
footprint JG008 (DIP, 8-Leads, Row Spacing 7.62mm, Pitch 2.54mm, Body 9.58x6.67mm)
3D model JG008 (DIP, Ceramic, 8-Pin, Row Spacing 7.62 mm, Pitch 2.54 mm)
pins on every part: 1 VCC (power) hidden to VCC, 4 GND (power) hidden to GND
part A pins: 2 1A (in), 7 1Z (out), 8 1Y (out)
part B pins: 3 2A (in), 5 2Z (out), 6 2Y (out)

## UA9638CP
designator U?
Dual High-Speed Differential Line Driver; Published: 15-May-2002; LatestRevisionDate: 29-May-2009; LatestRevisionNote: Component Body Added.; DatasheetVersion: Sep-1986; PackageVersion: Jun-1999; PackageReference: P008; Publisher: Altium Limited; PackageDescription: DIP, 8-Pin, Row Spacing 7.62 mm, Pitch 2.54 mm; Code_JEDEC: MO-001-AN; ComponentLink1Description: Manufacturer Link; ComponentLink1URL: http://www.ti.com/; ComponentLink2Description: Datasheet; ComponentLink2URL: http://www-s.ti.com/sc/ds/ua9638.pdf
footprint P008 (DIP, 8-Leads, Row Spacing 7.62mm, Pitch 2.54mm, Body 9.81x6.35mm)
3D model P008 (DIP, 8-Pin, Row Spacing 7.62 mm, Pitch 2.54 mm)
pins on every part: 1 VCC (power) hidden to VCC, 4 GND (power) hidden to GND
part A pins: 2 1A (in), 7 1Z (out), 8 1Y (out)
part B pins: 3 2A (in), 5 2Z (out), 6 2Y (out)